# Altium schematic symbol library GRM0335C1E100JA01D.SchLib: 2 symbols
Pins are listed as number, name and electrical type; pins without a type are passive.

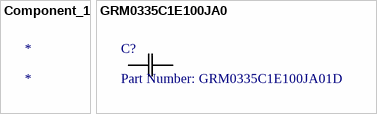
[diagram p0: symbols Component_1 to GRM0335C1E100JA0]

## Component_1
designator *

## GRM0335C1E100JA0
designator C?, comment Part Number: GRM0335C1E100JA01D
No Description Available; Vendor: Murata; Type: DEV; Copyright: Copyright (C) 2015 Accelerated Designs. All rights reserved; Manufacturer_Part_Number: GRM0335C1E100JA01D; RefDes: RefDes; Value: Value
footprint G-033
pins: 1, 2